# Altium footprint library kk.PcbLib: 30 footprints (part 2 of 2)
Each footprint in its own frame and in the unit in brackets; x right, y up, seen from the top. Pads: shape width x height; smd on the part's side, far side on the other; paste and mask are expansions set on the pad; w line width, h text height; cw(c..) or ccw(c..) is an arc to the next point about the centre after c.
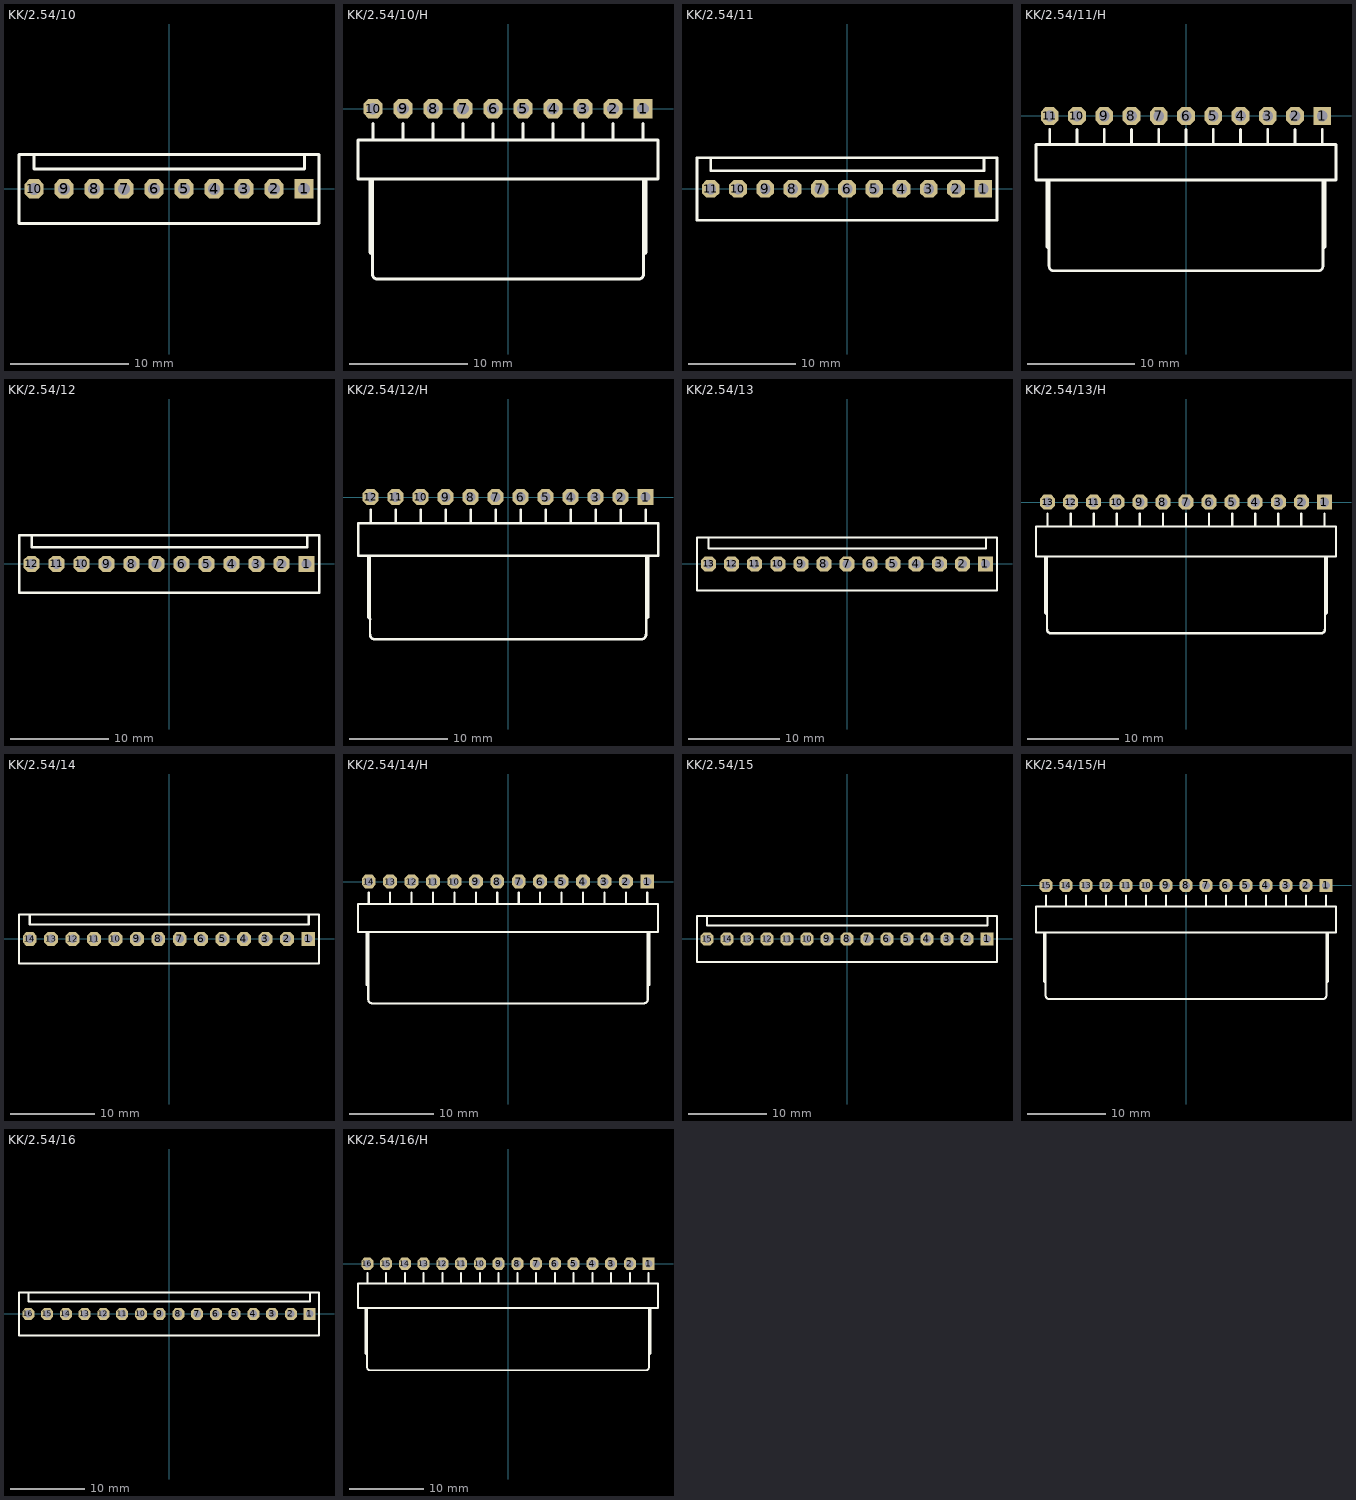
[diagram p1: the footprints below, top view; thin cyan lines are the x and y axes]

## KK/2.54/10 [mm]
pads (10):
  rect 1.65x1.65 hole 1: 1(11.43,0)
  oct 1.65x1.65 hole 1: 2(8.89,0) 3(6.35,0) 4(3.81,0) 5(1.27,0) 6(-1.27,0) 7(-3.81,0) 8(-6.35,0) 9(-8.89,0) 10(-11.43,0)
Top Overlay:
  lines w0.254: -11.43,2.9 -11.43,1.7 11.49,1.7 11.49,2.9 ; -12.7,-2.921 12.7,-2.921 12.7,2.9 -12.7,2.9 -12.7,-2.921
3D body: height 11.72, standoff -3.54, extent -12.7,-2.92 12.7,2.88

## KK/2.54/10/H [mm]
pads (10):
  rect 1.65x1.65 hole 1: 1(11.43,0)
  oct 1.65x1.65 hole 1: 2(8.89,0) 3(6.35,0) 4(3.81,0) 5(1.27,0) 6(-1.27,0) 7(-3.81,0) 8(-6.35,0) 9(-8.89,0) 10(-11.43,0)
Top Overlay:
  lines w0.254: -11.684,-5.969 -11.684,-12.192 -11.481,-12.395 ; -11.481,-13.97 -11.481,-5.969 ; -11.475,-14.001 ccw(c-11.049,-14.001) -11.049,-14.427 11.049,-14.427 ccw(c11.049,-14.001) 11.475,-14.001 ; -11.43,-2.667 -11.43,-1.27 ; -8.89,-2.667 -8.89,-1.27 ; -6.35,-2.667 -6.35,-1.27 ; -3.81,-2.667 -3.81,-1.27 ; -1.27,-2.667 -1.27,-1.27 ; 1.27,-2.667 1.27,-1.27 ; 3.81,-2.667 3.81,-1.27 ; 6.35,-2.667 6.35,-1.27 ; 8.89,-2.667 8.89,-1.27 ; 11.43,-2.667 11.43,-1.27 ; 11.481,-14.021 11.481,-5.969 ; 11.481,-12.395 11.684,-12.192 11.684,-5.969 ; -12.7,-5.969 -12.7,-2.667 12.7,-2.667 12.7,-5.969 -12.7,-5.969

## KK/2.54/11 [mm]
pads (11):
  rect 1.65x1.65 hole 1: 1(12.7,0)
  oct 1.65x1.65 hole 1: 2(10.16,0) 3(7.62,0) 4(5.08,0) 5(2.54,0) 6(0,0) 7(-2.54,0) 8(-5.08,0) 9(-7.62,0) 10(-10.16,0) 11(-12.7,0)
Top Overlay:
  lines w0.254: -12.7,2.9 -12.7,1.7 12.76,1.7 12.76,2.9 ; -13.97,-2.921 13.97,-2.921 13.97,2.9 -13.97,2.9 -13.97,-2.921
3D body: height 11.72, standoff -3.54, extent -13.97,-2.92 13.97,2.88

## KK/2.54/11/H [mm]
pads (11):
  rect 1.65x1.65 hole 1: 1(12.7,0)
  oct 1.65x1.65 hole 1: 2(10.16,0) 3(7.62,0) 4(5.08,0) 5(2.54,0) 6(0,0) 7(-2.54,0) 8(-5.08,0) 9(-7.62,0) 10(-10.16,0) 11(-12.7,0)
Top Overlay:
  lines w0.254: -12.954,-5.969 -12.954,-12.192 -12.751,-12.395 ; -12.751,-13.97 -12.751,-5.969 ; -12.745,-14.001 ccw(c-12.319,-14.001) -12.319,-14.427 ; -12.7,-2.667 -12.7,-1.27 ; -12.243,-14.427 12.319,-14.427 ccw(c12.319,-14.001) 12.745,-14.001 ; -10.16,-2.667 -10.16,-1.27 ; -7.62,-2.667 -7.62,-1.27 ; -5.08,-2.667 -5.08,-1.27 ; -2.54,-2.667 -2.54,-1.27 ; 0,-2.667 0,-1.27 ; 2.54,-2.667 2.54,-1.27 ; 5.08,-2.667 5.08,-1.27 ; 7.62,-2.667 7.62,-1.27 ; 10.16,-2.667 10.16,-1.27 ; 12.7,-2.667 12.7,-1.27 ; 12.751,-14.021 12.751,-5.969 ; 12.751,-12.395 12.954,-12.192 12.954,-5.969 ; -13.97,-5.969 -13.97,-2.667 13.97,-2.667 13.97,-5.969 -13.97,-5.969

## KK/2.54/12 [mm]
pads (12):
  rect 1.65x1.65 hole 1: 1(13.97,0)
  oct 1.65x1.65 hole 1: 2(11.43,0) 3(8.89,0) 4(6.35,0) 5(3.81,0) 6(1.27,0) 7(-1.27,0) 8(-3.81,0) 9(-6.35,0) 10(-8.89,0) 11(-11.43,0) 12(-13.97,0)
Top Overlay:
  lines w0.254: -13.97,2.9 -13.97,1.7 14.03,1.7 14.03,2.9 ; -15.24,-2.921 15.24,-2.921 15.24,2.9 -15.24,2.9 -15.24,-2.921
3D body: height 11.72, standoff -3.54, extent -15.24,-2.92 15.24,2.88

## KK/2.54/12/H [mm]
pads (12):
  rect 1.65x1.65 hole 1: 1(13.97,0)
  oct 1.65x1.65 hole 1: 2(11.43,0) 3(8.89,0) 4(6.35,0) 5(3.81,0) 6(1.27,0) 7(-1.27,0) 8(-3.81,0) 9(-6.35,0) 10(-8.89,0) 11(-11.43,0) 12(-13.97,0)
Top Overlay:
  lines w0.254: -14.224,-5.969 -14.224,-12.192 -14.021,-12.395 ; -14.021,-13.97 -14.021,-5.969 ; -14.015,-14.001 ccw(c-13.589,-14.001) -13.589,-14.427 13.589,-14.427 ccw(c13.589,-14.001) 14.015,-14.001 ; -13.97,-2.667 -13.97,-1.27 ; -11.43,-2.667 -11.43,-1.27 ; -8.89,-2.667 -8.89,-1.27 ; -6.35,-2.667 -6.35,-1.27 ; -3.81,-2.667 -3.81,-1.27 ; -1.27,-2.667 -1.27,-1.27 ; 1.27,-2.667 1.27,-1.27 ; 3.81,-2.667 3.81,-1.27 ; 6.35,-2.667 6.35,-1.27 ; 8.89,-2.667 8.89,-1.27 ; 11.43,-2.667 11.43,-1.27 ; 13.97,-2.667 13.97,-1.27 ; 14.021,-14.021 14.021,-5.969 ; 14.021,-12.395 14.224,-12.192 14.224,-5.969 ; -15.24,-5.969 -15.24,-2.667 15.24,-2.667 15.24,-5.969 -15.24,-5.969

## KK/2.54/13 [mm]
pads (13):
  rect 1.65x1.65 hole 1: 1(15.24,0)
  oct 1.65x1.65 hole 1: 2(12.7,0) 3(10.16,0) 4(7.62,0) 5(5.08,0) 6(2.54,0) 7(0,0) 8(-2.54,0) 9(-5.08,0) 10(-7.62,0) 11(-10.16,0) 12(-12.7,0) 13(-15.24,0)
Top Overlay:
  lines w0.254: -15.24,2.9 -15.24,1.7 15.3,1.7 15.3,2.9 ; -16.51,-2.921 16.51,-2.921 16.51,2.9 -16.51,2.9 -16.51,-2.921
3D body: height 11.72, standoff -3.54, extent -16.51,-2.92 16.51,2.88

## KK/2.54/13/H [mm]
pads (13):
  rect 1.65x1.65 hole 1: 1(15.24,0)
  oct 1.65x1.65 hole 1: 2(12.7,0) 3(10.16,0) 4(7.62,0) 5(5.08,0) 6(2.54,0) 7(0,0) 8(-2.54,0) 9(-5.08,0) 10(-7.62,0) 11(-10.16,0) 12(-12.7,0) 13(-15.24,0)
Top Overlay:
  lines w0.254: -15.494,-5.969 -15.494,-12.192 -15.291,-12.395 ; -15.291,-13.97 -15.291,-5.969 ; -15.285,-14.001 ccw(c-14.859,-14.001) -14.859,-14.427 14.859,-14.427 ccw(c14.859,-14.001) 15.285,-14.001 ; -15.24,-2.667 -15.24,-1.27 ; -12.7,-2.667 -12.7,-1.27 ; -10.16,-2.667 -10.16,-1.27 ; -7.62,-2.667 -7.62,-1.27 ; -5.08,-2.667 -5.08,-1.27 ; -2.54,-2.667 -2.54,-1.27 ; 0,-2.667 0,-1.27 ; 2.54,-2.667 2.54,-1.27 ; 5.08,-2.667 5.08,-1.27 ; 7.62,-2.667 7.62,-1.27 ; 10.16,-2.667 10.16,-1.27 ; 12.7,-2.667 12.7,-1.27 ; 15.24,-2.667 15.24,-1.27 ; 15.291,-14.021 15.291,-5.969 ; 15.291,-12.395 15.494,-12.192 15.494,-5.969 ; -16.51,-5.969 -16.51,-2.667 16.51,-2.667 16.51,-5.969 -16.51,-5.969

## KK/2.54/14 [mm]
pads (14):
  rect 1.65x1.65 hole 1: 1(16.51,0)
  oct 1.65x1.65 hole 1: 2(13.97,0) 3(11.43,0) 4(8.89,0) 5(6.35,0) 6(3.81,0) 7(1.27,0) 8(-1.27,0) 9(-3.81,0) 10(-6.35,0) 11(-8.89,0) 12(-11.43,0) 13(-13.97,0) 14(-16.51,0)
Top Overlay:
  lines w0.254: -16.51,2.9 -16.51,1.7 16.57,1.7 16.57,2.9 ; -17.78,-2.921 17.78,-2.921 17.78,2.9 -17.78,2.9 -17.78,-2.921
3D body: height 11.72, standoff -3.54, extent -17.78,-2.92 17.78,2.88

## KK/2.54/14/H [mm]
pads (14):
  rect 1.65x1.65 hole 1: 1(16.51,0)
  oct 1.65x1.65 hole 1: 2(13.97,0) 3(11.43,0) 4(8.89,0) 5(6.35,0) 6(3.81,0) 7(1.27,0) 8(-1.27,0) 9(-3.81,0) 10(-6.35,0) 11(-8.89,0) 12(-11.43,0) 13(-13.97,0) 14(-16.51,0)
Top Overlay:
  lines w0.254: -16.764,-5.969 -16.764,-12.192 -16.561,-12.395 ; -16.561,-13.97 -16.561,-5.969 ; -16.555,-14.001 ccw(c-16.129,-14.001) -16.129,-14.427 16.129,-14.427 ccw(c16.129,-14.001) 16.555,-14.001 ; -16.51,-2.667 -16.51,-1.27 ; -13.97,-2.667 -13.97,-1.27 ; -11.43,-2.667 -11.43,-1.27 ; -8.89,-2.667 -8.89,-1.27 ; -6.35,-2.667 -6.35,-1.27 ; -3.81,-2.667 -3.81,-1.27 ; -1.27,-2.667 -1.27,-1.27 ; 1.27,-2.667 1.27,-1.27 ; 3.81,-2.667 3.81,-1.27 ; 6.35,-2.667 6.35,-1.27 ; 8.89,-2.667 8.89,-1.27 ; 11.43,-2.667 11.43,-1.27 ; 13.97,-2.667 13.97,-1.27 ; 16.51,-2.667 16.51,-1.27 ; 16.561,-14.021 16.561,-5.969 ; 16.561,-12.395 16.764,-12.192 16.764,-5.969 ; -17.78,-5.969 -17.78,-2.667 17.78,-2.667 17.78,-5.969 -17.78,-5.969

## KK/2.54/15 [mm]
pads (15):
  rect 1.65x1.65 hole 1: 1(17.78,0)
  oct 1.65x1.65 hole 1: 2(15.24,0) 3(12.7,0) 4(10.16,0) 5(7.62,0) 6(5.08,0) 7(2.54,0) 8(0,0) 9(-2.54,0) 10(-5.08,0) 11(-7.62,0) 12(-10.16,0) 13(-12.7,0) 14(-15.24,0) 15(-17.78,0)
Top Overlay:
  lines w0.254: -17.78,2.9 -17.78,1.7 17.84,1.7 17.84,2.9 ; -19.05,-2.921 -19.05,2.9 19.05,2.9 19.05,-2.921 -19.05,-2.921
3D body: height 11.72, standoff -3.54, extent -19.05,-2.92 19.05,2.88

## KK/2.54/15/H [mm]
pads (15):
  rect 1.65x1.65 hole 1: 1(17.78,0)
  oct 1.65x1.65 hole 1: 2(15.24,0) 3(12.7,0) 4(10.16,0) 5(7.62,0) 6(5.08,0) 7(2.54,0) 8(0,0) 9(-2.54,0) 10(-5.08,0) 11(-7.62,0) 12(-10.16,0) 13(-12.7,0) 14(-15.24,0) 15(-17.78,0)
Top Overlay:
  lines w0.254: -18.034,-5.969 -18.034,-12.192 -17.831,-12.395 ; -17.831,-13.97 -17.831,-5.969 ; -17.825,-14.001 ccw(c-17.399,-14.001) -17.399,-14.427 17.399,-14.427 ccw(c17.399,-14.001) 17.825,-14.001 ; -17.78,-2.667 -17.78,-1.27 ; -15.24,-2.667 -15.24,-1.27 ; -12.7,-2.667 -12.7,-1.27 ; -10.16,-2.667 -10.16,-1.27 ; -7.62,-2.667 -7.62,-1.27 ; -5.08,-2.667 -5.08,-1.27 ; -2.54,-2.667 -2.54,-1.27 ; 0,-2.667 0,-1.27 ; 2.54,-2.667 2.54,-1.27 ; 5.08,-2.667 5.08,-1.27 ; 7.62,-2.667 7.62,-1.27 ; 10.16,-2.667 10.16,-1.27 ; 12.7,-2.667 12.7,-1.27 ; 15.24,-2.667 15.24,-1.27 ; 17.78,-2.667 17.78,-1.27 ; 17.831,-14.021 17.831,-5.969 ; 17.831,-12.395 18.034,-12.192 18.034,-5.969 ; -19.05,-5.969 -19.05,-2.667 19.05,-2.667 19.05,-5.969 -19.05,-5.969

## KK/2.54/16 [mm]
pads (16):
  rect 1.65x1.65 hole 1: 1(19.05,0)
  oct 1.65x1.65 hole 1: 2(16.51,0) 3(13.97,0) 4(11.43,0) 5(8.89,0) 6(6.35,0) 7(3.81,0) 8(1.27,0) 9(-1.27,0) 10(-3.81,0) 11(-6.35,0) 12(-8.89,0) 13(-11.43,0) 14(-13.97,0) 15(-16.51,0) 16(-19.05,0)
Top Overlay:
  lines w0.254: -19.05,2.9 -19.05,1.7 19.11,1.7 19.11,2.9 ; -20.32,-2.921 -20.32,2.9 20.32,2.9 20.32,-2.921 -20.32,-2.921
3D body: height 11.72, standoff -3.54, extent -20.32,-2.92 20.32,2.88

## KK/2.54/16/H [mm]
pads (16):
  rect 1.65x1.65 hole 1: 1(19.05,0)
  oct 1.65x1.65 hole 1: 2(16.51,0) 3(13.97,0) 4(11.43,0) 5(8.89,0) 6(6.35,0) 7(3.81,0) 8(1.27,0) 9(-1.27,0) 10(-3.81,0) 11(-6.35,0) 12(-8.89,0) 13(-11.43,0) 14(-13.97,0) 15(-16.51,0) 16(-19.05,0)
Top Overlay:
  lines w0.254: -19.304,-5.969 -19.304,-12.192 -19.101,-12.395 ; -19.101,-13.97 -19.101,-5.969 ; -19.095,-14.001 ccw(c-18.669,-14.001) -18.669,-14.427 ; -19.05,-2.667 -19.05,-1.27 ; -18.644,-14.427 18.669,-14.427 ccw(c18.669,-14.001) 19.095,-14.001 ; -16.51,-2.667 -16.51,-1.27 ; -13.97,-2.667 -13.97,-1.27 ; -11.43,-2.667 -11.43,-1.27 ; -8.89,-2.667 -8.89,-1.27 ; -6.35,-2.667 -6.35,-1.27 ; -3.81,-2.667 -3.81,-1.27 ; -1.27,-2.667 -1.27,-1.27 ; 1.27,-2.667 1.27,-1.27 ; 3.81,-2.667 3.81,-1.27 ; 6.35,-2.667 6.35,-1.27 ; 8.89,-2.667 8.89,-1.27 ; 11.43,-2.667 11.43,-1.27 ; 13.97,-2.667 13.97,-1.27 ; 16.51,-2.667 16.51,-1.27 ; 19.05,-2.667 19.05,-1.27 ; 19.101,-14.021 19.101,-5.969 ; 19.101,-12.395 19.304,-12.192 19.304,-5.969 ; -20.32,-5.969 -20.32,-2.667 20.32,-2.667 20.32,-5.969 -20.32,-5.969